# EAGLE library part FUSION878 (library fusion878)
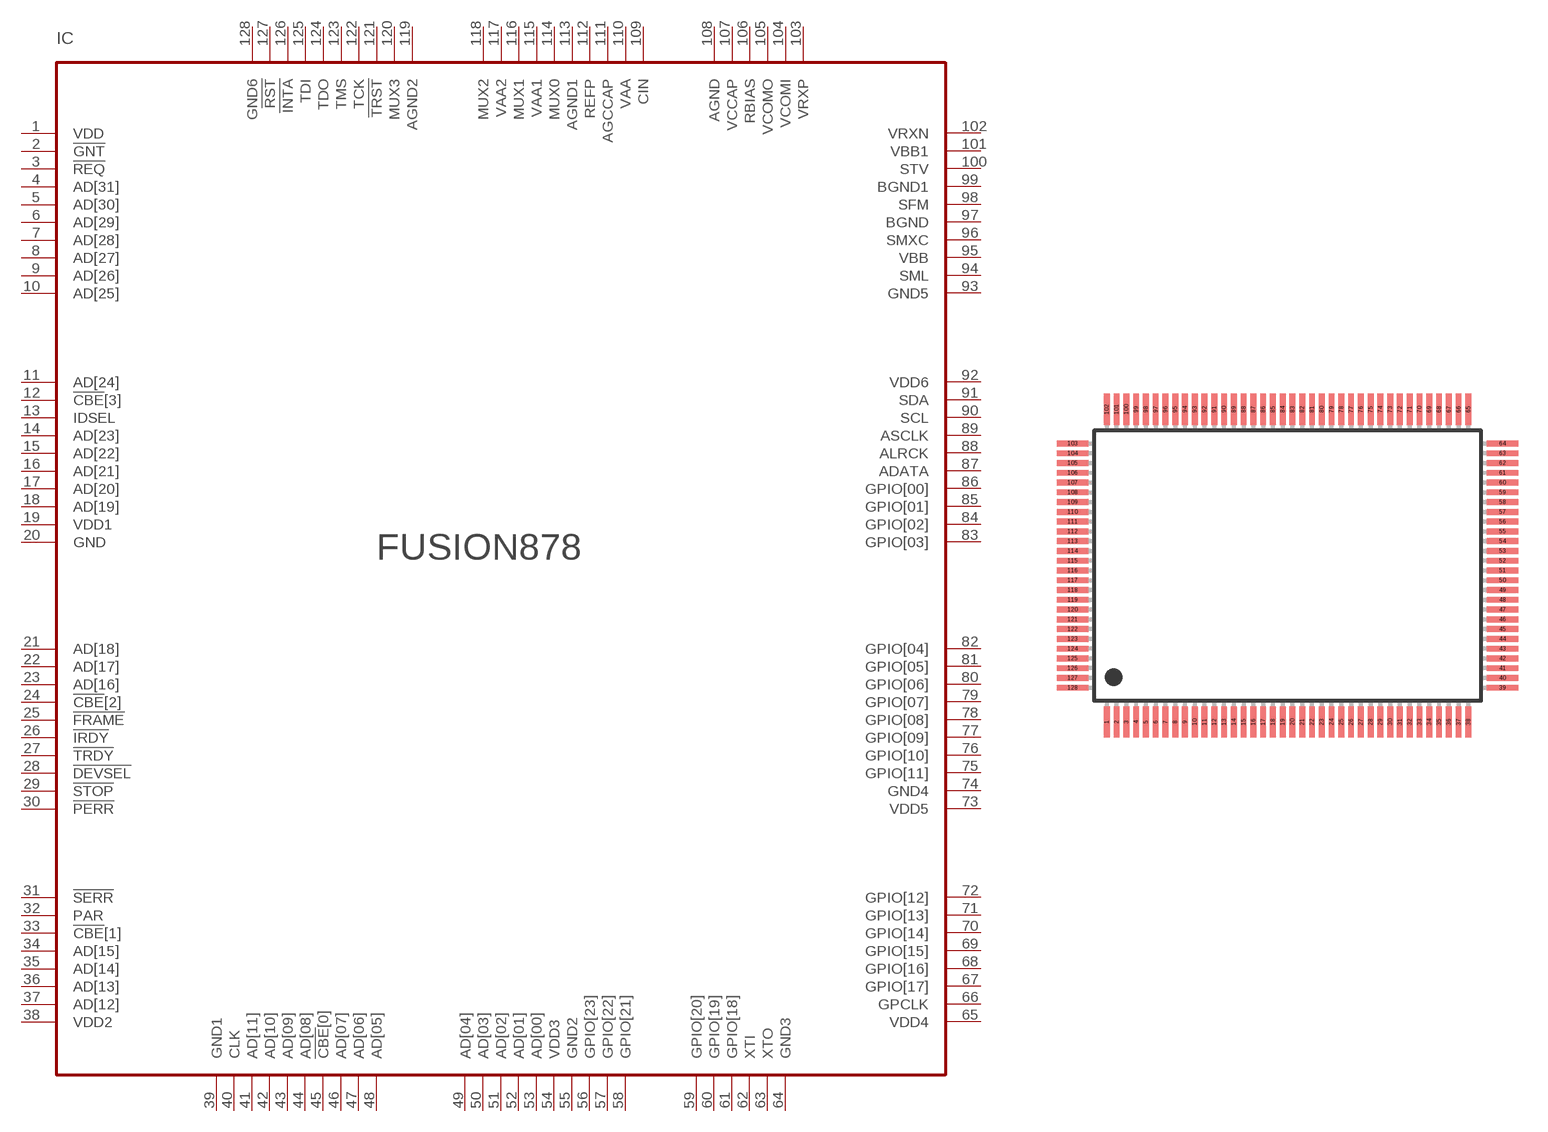
[diagram p0: symbol with the pads of PQFP-128; footprint PQFP-128]

Designator prefix IC

## FUSION878  [PQFP-128]
1  VDD  pwr
2  !GNT
3  !REQ
4  AD[31]
5  AD[30]
6  AD[29]
7  AD[28]
8  AD[27]
9  AD[26]
10  AD[25]
11  AD[24]
12  !CBE![3]
13  IDSEL
14  AD[23]
15  AD[22]
16  AD[21]
17  AD[20]
18  AD[19]
19  VDD1  pwr
20  GND  pwr
21  AD[18]
22  AD[17]
23  AD[16]
24  !CBE![2]
25  !FRAME
26  !IRDY
27  !TRDY
28  !DEVSEL
29  !STOP
30  !PERR
31  !SERR
32  PAR
33  !CBE![1]
34  AD[15]
35  AD[14]
36  AD[13]
37  AD[12]
38  VDD2  pwr
39  GND1  pwr
40  CLK
41  AD[11]
42  AD[10]
43  AD[09]
44  AD[08]
45  !CBE![0]
46  AD[07]
47  AD[06]
48  AD[05]
49  AD[04]
50  AD[03]
51  AD[02]
52  AD[01]
53  AD[00]
54  VDD3  pwr
55  GND2  pwr
56  GPIO[23]
57  GPIO[22]
58  GPIO[21]
59  GPIO[20]
60  GPIO[19]
61  GPIO[18]
62  XTI
63  XTO
64  GND3  pwr
65  VDD4  pwr
66  GPCLK
67  GPIO[17]
68  GPIO[16]
69  GPIO[15]
70  GPIO[14]
71  GPIO[13]
72  GPIO[12]
73  VDD5  pwr
74  GND4  pwr
75  GPIO[11]
76  GPIO[10]
77  GPIO[09]
78  GPIO[08]
79  GPIO[07]
80  GPIO[06]
81  GPIO[05]
82  GPIO[04]
83  GPIO[03]
84  GPIO[02]
85  GPIO[01]
86  GPIO[00]
87  ADATA
88  ALRCK
89  ASCLK
90  SCL
91  SDA
92  VDD6  pwr
93  GND5  pwr
94  SML
95  VBB
96  SMXC
97  BGND
98  SFM
99  BGND1
100  STV
101  VBB1
102  VRXN
103  VRXP
104  VCOMI
105  VCOMO
106  RBIAS
107  VCCAP
108  AGND
109  CIN
110  VAA
111  AGCCAP
112  REFP
113  AGND1
114  MUX0
115  VAA1
116  MUX1
117  VAA2
118  MUX2
119  AGND2
120  MUX3
121  !TRST
122  TCK
123  TMS
124  TDO
125  TDI
126  !INTA
127  !RST
128  GND6

## Footprint PQFP-128 (pad centres in mm)
smd 0.3 x 1.6: 1 -9.25,-8; 2 -8.75,-8; 3 -8.25,-8; 4 -7.75,-8; 5 -7.25,-8; 6 -6.75,-8; 7 -6.25,-8; 8 -5.75,-8; 9 -5.25,-8; 10 -4.75,-8; 11 -4.25,-8; 12 -3.75,-8; 13 -3.25,-8; 14 -2.75,-8; 15 -2.25,-8; 16 -1.75,-8; 17 -1.25,-8; 18 -0.75,-8; 19 -0.25,-8; 20 0.25,-8; 21 0.75,-8; 22 1.25,-8; 23 1.75,-8; 24 2.25,-8; 25 2.75,-8; 26 3.25,-8; 27 3.75,-8; 28 4.25,-8; 29 4.75,-8; 30 5.25,-8; 31 5.75,-8; 32 6.25,-8; 33 6.75,-8; 34 7.25,-8; 35 7.75,-8; 36 8.25,-8; 37 8.75,-8; 38 9.25,-8; 65 9.25,8; 66 8.75,8; 67 8.25,8; 68 7.75,8; 69 7.25,8; 70 6.75,8; 71 6.25,8; 72 5.75,8; 73 5.25,8; 74 4.75,8; 75 4.25,8; 76 3.75,8; 77 3.25,8; 78 2.75,8; 79 2.25,8; 80 1.75,8; 81 1.25,8; 82 0.75,8; 83 0.25,8; 84 -0.25,8; 85 -0.75,8; 86 -1.25,8; 87 -1.75,8; 88 -2.25,8; 89 -2.75,8; 90 -3.25,8; 91 -3.75,8; 92 -4.25,8; 93 -4.75,8; 94 -5.25,8; 95 -5.75,8; 96 -6.25,8; 97 -6.75,8; 98 -7.25,8; 99 -7.75,8; 100 -8.25,8; 101 -8.75,8; 102 -9.25,8
smd 1.6 x 0.3: 39 11,-6.25; 40 11,-5.75; 41 11,-5.25; 42 11,-4.75; 43 11,-4.25; 44 11,-3.75; 45 11,-3.25; 46 11,-2.75; 47 11,-2.25; 48 11,-1.75; 49 11,-1.25; 50 11,-0.75; 51 11,-0.25; 52 11,0.25; 53 11,0.75; 54 11,1.25; 55 11,1.75; 56 11,2.25; 57 11,2.75; 58 11,3.25; 59 11,3.75; 60 11,4.25; 61 11,4.75; 62 11,5.25; 63 11,5.75; 64 11,6.25; 103 -11,6.25; 104 -11,5.75; 105 -11,5.25; 106 -11,4.75; 107 -11,4.25; 108 -11,3.75; 109 -11,3.25; 110 -11,2.75; 111 -11,2.25; 112 -11,1.75; 113 -11,1.25; 114 -11,0.75; 115 -11,0.25; 116 -11,-0.25; 117 -11,-0.75; 118 -11,-1.25; 119 -11,-1.75; 120 -11,-2.25; 121 -11,-2.75; 122 -11,-3.25; 123 -11,-3.75; 124 -11,-4.25; 125 -11,-4.75; 126 -11,-5.25; 127 -11,-5.75; 128 -11,-6.25